# Altium schematic symbol library Picoblade 3X1.SchLib: 1 symbol
Pins are listed as number, name and electrical type; pins without a type are passive.

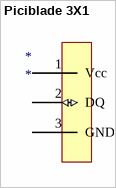
[diagram p0: symbol Piciblade 3X1]

## Piciblade 3X1
designator *
footprint PICO_BLADE1X3
pins: 1 Vcc (power), 2 DQ (io), 3 GND